# EAGLE library part MICROSD_NOCD (library bschulz)
Micro-SD / Transflash card holder with SPI pinout, No Card Detect For any MicroSD holders lacking card detect options
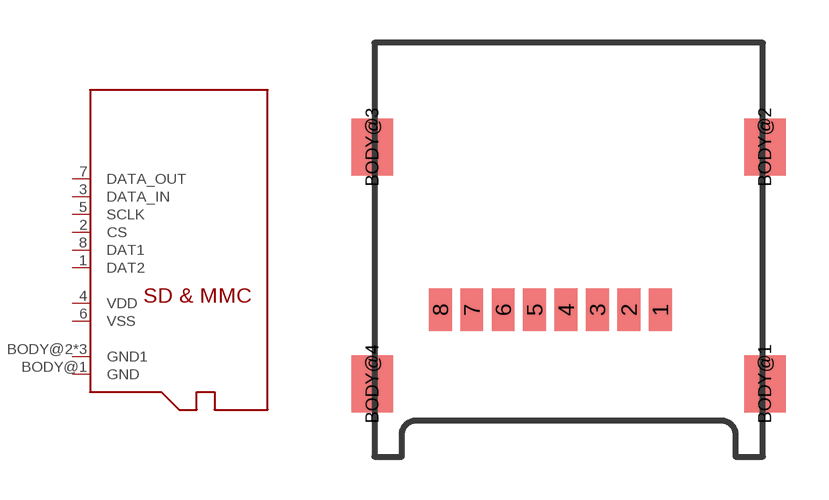
[diagram p100: symbol with the pads of USD_MOLEX_HINDGED; footprint USD_MOLEX_HINDGED]

Designator prefix SD

## MICROSD_NOCDHINDGED (DIGIKEY: WM6698CT-ND; MF: Molex; MPN: 0472192001)  [USD_MOLEX_HINDGED]
1  DAT2
2  CS  in
3  DATA_IN  in
4  VDD  sup
5  SCLK  in
6  VSS  sup
7  DATA_OUT  out
8  DAT1
BODY@1  GND  sup
BODY@2  GND1  sup
BODY@3  GND1  sup
BODY@4  GND1  sup

## Footprint USD_MOLEX_HINDGED (pad centres in mm)
smd 0.8 x 1.5: 1 3.205,5.15; 2 2.105,5.15; 3 1.005,5.15; 4 -0.095,5.15; 5 -1.195,5.15; 6 -2.295,5.15; 7 -3.395,5.15; 8 -4.495,5.15
smd 1.45 x 2: BODY@1 6.875,2.55; BODY@2 6.875,10.85; BODY@3 -6.875,10.85; BODY@4 -6.875,2.55